# EAGLE library part PCF8563 (library Traficon)
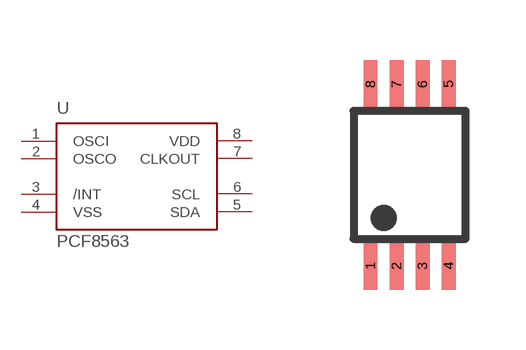
[diagram p189: symbol with the pads of SOT505-1; footprint SOT505-1]

Designator prefix U

## PCF8563TS  [SOT505-1]
1  OSCI
2  OSCO
3  /INT
4  VSS
5  SDA
6  SCL
7  CLKOUT
8  VDD

## Footprint SOT505-1 (pad centres in mm)
CT: 7 oct. 2008: changed package name + checked pad layout with NXP sot505-1.
smd 0.35 x 1.2: 1 -0.975,-2.275; 2 -0.325,-2.275; 3 0.325,-2.275; 4 0.975,-2.275; 5 0.975,2.275; 6 0.325,2.275; 7 -0.325,2.275; 8 -0.975,2.275